# EAGLE library part TPS62130RGTR (library TPS62130RGTR)
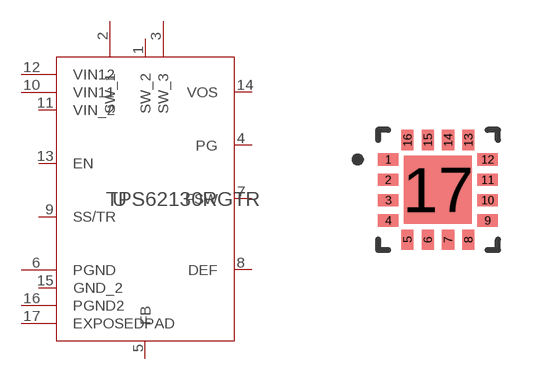
[diagram p0: symbol with the pads of S-PVQFN-N16; footprint S-PVQFN-N16]

Designator prefix -

## TPS62130RGTR (DATASHEETURL: http://www.ti.com/product/tps62130; FREQUENCY: 2500000.0; IMAX: 3.0; MANUFACTURER_NAME: Texas Instruments; MANUFACTURER_PART_NUMBER: TPS62130RGTR; MKTG_PACKAGE: RGT; NSID: TPS62130RGTR; PACKAGE: RGT; VENDOR: Texas Instruments)  [S-PVQFN-N16]
1  SW_2  pas
2  SW_1
3  SW_3
4  PG  pas
5  FB  pas
6  PGND
7  FSW  pas
8  DEF  pas
9  SS/TR  pas
10  VIN11
11  VIN_2  pas
12  VIN12
13  EN  pas
14  VOS  pas
15  GND_2  pas
16  PGND2
17  EXPOSEDPAD

## Footprint S-PVQFN-N16 (pad centres in mm)
smd 0.508 x 0.305: 1 -1.245,0.762; 2 -1.245,0.254; 3 -1.245,-0.254; 4 -1.245,-0.762; 9 1.245,-0.762; 10 1.245,-0.254; 11 1.245,0.254; 12 1.245,0.762
smd 0.305 x 0.508: 5 -0.762,-1.245; 6 -0.254,-1.245; 7 0.254,-1.245; 8 0.762,-1.245; 13 0.762,1.245; 14 0.254,1.245; 15 -0.254,1.245; 16 -0.762,1.245
smd 1.702 x 1.702: 17 0,0